# EAGLE library part CP2103 (library silicon-labs)
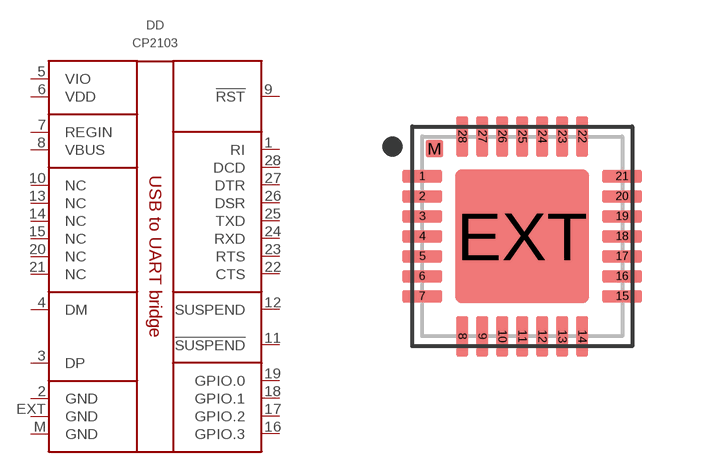
[diagram p0: symbol with the pads of QFN-28; footprint QFN-28]

Designator prefix DD

## CP2103-GM  [QFN-28]
1  RI  in
2  GND  pwr
3  DP
4  DM
5  VIO  pwr
6  VDD  pwr
7  REGIN  pwr
8  VBUS  pwr
9  !RST
10  NC  nc
11  !SUSPEND  out
12  SUSPEND  out
13  NC  nc
14  NC  nc
15  NC  nc
16  GPIO.3
17  GPIO.2
18  GPIO.1
19  GPIO.0
20  NC  nc
21  NC  nc
22  CTS  in
23  RTS  out
24  RXD  in
25  TXD  out
26  DSR  in
27  DTR  out
28  DCD  in
EXT  GND  pwr
M  GND  pwr

## Footprint QFN-28 (pad centres in mm)
smd 1 x 0.3: 1 -2.5,1.5; 2 -2.5,1; 3 -2.5,0.5; 4 -2.5,0; 5 -2.5,-0.5; 6 -2.5,-1; 7 -2.5,-1.5; 15 2.5,-1.5; 16 2.5,-1; 17 2.5,-0.5; 18 2.5,0; 19 2.5,0.5; 20 2.5,1; 21 2.5,1.5
smd 0.3 x 1: 8 -1.5,-2.5; 9 -1,-2.5; 10 -0.5,-2.5; 11 0,-2.5; 12 0.5,-2.5; 13 1,-2.5; 14 1.5,-2.5; 22 1.5,2.5; 23 1,2.5; 24 0.5,2.5; 25 0,2.5; 26 -0.5,2.5; 27 -1,2.5; 28 -1.5,2.5
smd 3.35 x 3.35: EXT 0,0
smd 0.435 x 0.435: M -2.192,2.192